# Altium schematic symbol library Schematic.SchLib: 9 symbols
Pins are listed as number, name and electrical type; pins without a type are passive.

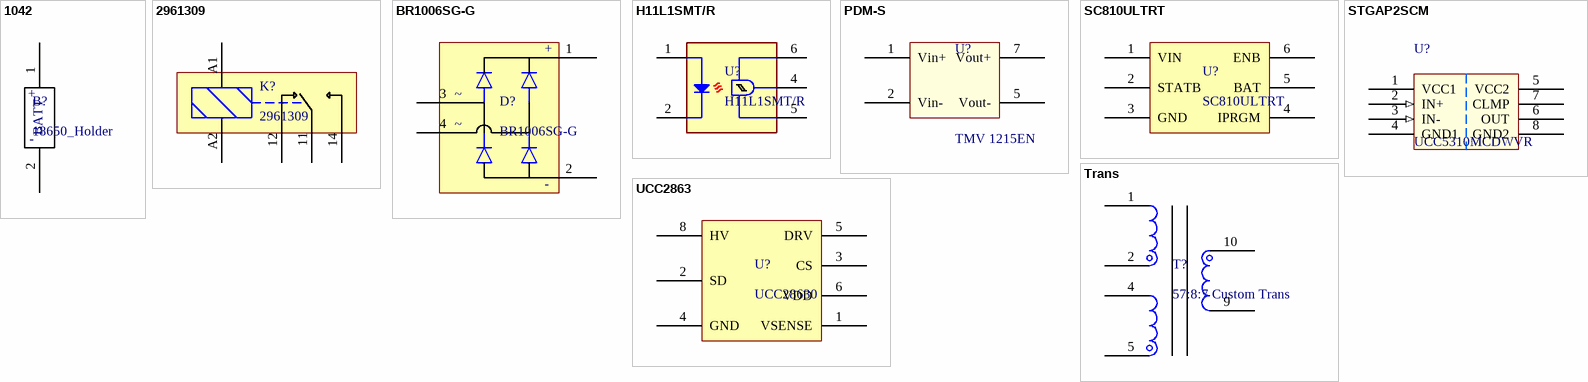
[diagram p0: symbols 1042 to UCC2863]

## 1042
designator B?, comment 18650_Holder
18650 Cell and Holder 3-4.2V
footprint 1042 (18650+Holder)
pins: 1 POS, 2 NEG
text: +; BATT; -

## 2961309
designator K?
Plug-in miniature power relay, with power contact for high continuous currents, 1 changeover contact, input voltage 12 V DC
footprint 2961309
pins: 11 15, 12 16, 14, A1 1, A2 2

## BR1006SG-G
designator D?
BRIDGE RECT 1PHASE 600V 10A BR-8
footprint BR1006SG-G
pins: 1 5, 2 6, 3, 4
text: +; ~; -

## H11L1SMT/R
designator U?
Logic Output Optoisolator 1MHz Open Collector 5000Vrms 1 Channel - CMTI 6-SM4634D
footprint H11L1SMT/R
pins: 1, 2, 4, 5, 6

## PDM-S
designator U?, comment TMV 1215EN
DC DC CONVERTER 15V 1W; Manufacturer: Traco Power; ComponentLink1Description: Datasheet; Mount: TH; Supplier 1: Digi-Key; ComponentLink1URL: https://www.tracopower.com/products/tmv-en.pdf; Manufacturer Part Number: TMV 1215EN
footprint TMVXXXXEN (TRACO DC-DC SIP Reinforced TMV)
pins: 1 Vin+, 2 Vin-, 5 Vout-, 7 Vout+

## SC810ULTRT
designator U?
IC BATT CHG LI-ION 1CELL 6MLP
footprint SC810ULTRT
pins: 1 VIN, 2 STATB, 3 GND, 4 IPRGM, 5 BAT, 6 ENB

## STGAP2SCM
designator U?, comment UCC5310MCDWVR
DGTL ISO 3KV 1CH GATE DRVR 8SOIC; Manufacturer: Texas Instruments; Manufacturer Part Number: UCC5310MCDWVR; ComponentLink1Description: Datasheet; ComponentLink1URL: https://www.st.com/resource/en/datasheet/stgap2s.pdf; Mount: SMT
footprint UCC-SOIC-8W (SOIC-8 Wide (7.6mm width))
pins: 1 VCC1, 2 IN+ (in), 3 IN- (in), 4 GND1, 5 VCC2, 6 OUT, 7 CLMP, 8 GND2

## Trans
designator T?, comment 57:8:7 Custom Trans
Custom Transformer 57:8:7
footprint E25-13-7
pins: 1 9, 2 10, 4 11, 5 12, 9, 10

## UCC2863
designator U?, comment UCC28630
Converter Offline Buck, Flyback Topology 120kHz 7-SOIC
pins: 1 VSENSE, 2 SD, 3 CS, 4 GND, 5 DRV, 6 VDD, 8 HV